# EAGLE library part LT1374CR-5 (library linear-technology)
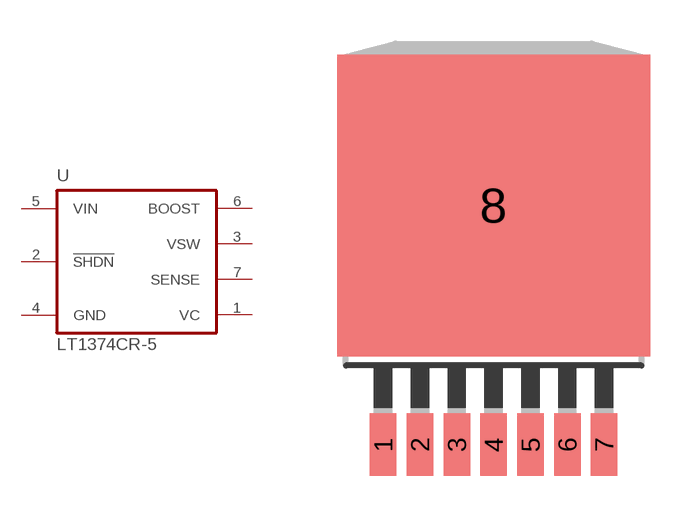
[diagram p14: symbol with the pads of TO263-7; footprint TO263-7]

Designator prefix U

## LT1374CR-5  [TO263-7]
1  VC
2  !SHDN!
3  VSW
4  GND
5  VIN
6  BOOST
7  SENSE

## Footprint TO263-7 (pad centres in mm)
smd 0.914 x 2.159: 1 -3.81,-5.715; 2 -2.54,-5.715; 3 -1.27,-5.715; 4 0,-5.715; 5 1.27,-5.715; 6 2.54,-5.715; 7 3.81,-5.715
smd 10.8 x 10.41: 8 0,2.54